# EAGLE library part DECADE-MAX485 (library DECADE-libraries20151104)
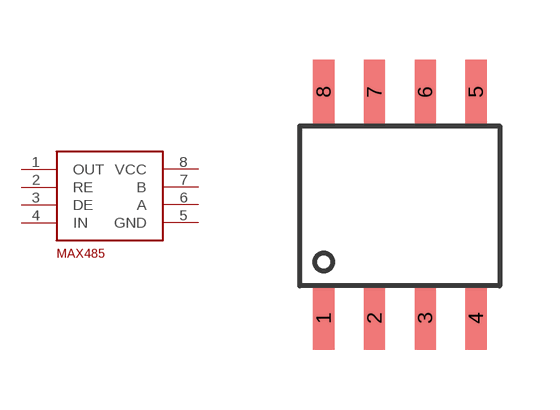
[diagram p103: symbol with the pads of DECADE-SO-8; footprint DECADE-SO-8]

Designator prefix -

## DECADE-MAX485  [DECADE-SO-8]
1  OUT
2  RE
3  DE
4  IN
5  GND
6  A
7  B
8  VCC

## Footprint DECADE-SO-8 (pad centres in mm)
smd 0.53 x 1.6: 1 0,0.7; 2 1.27,0.7; 3 2.54,0.7; 4 3.81,0.7; 5 3.81,6.35; 6 2.54,6.35; 7 1.27,6.35; 8 0,6.35